# Altium schematic symbol library kmilo17pet-LT_PMIC_LT.SchLib: 2252 symbols (part 53 of 124)
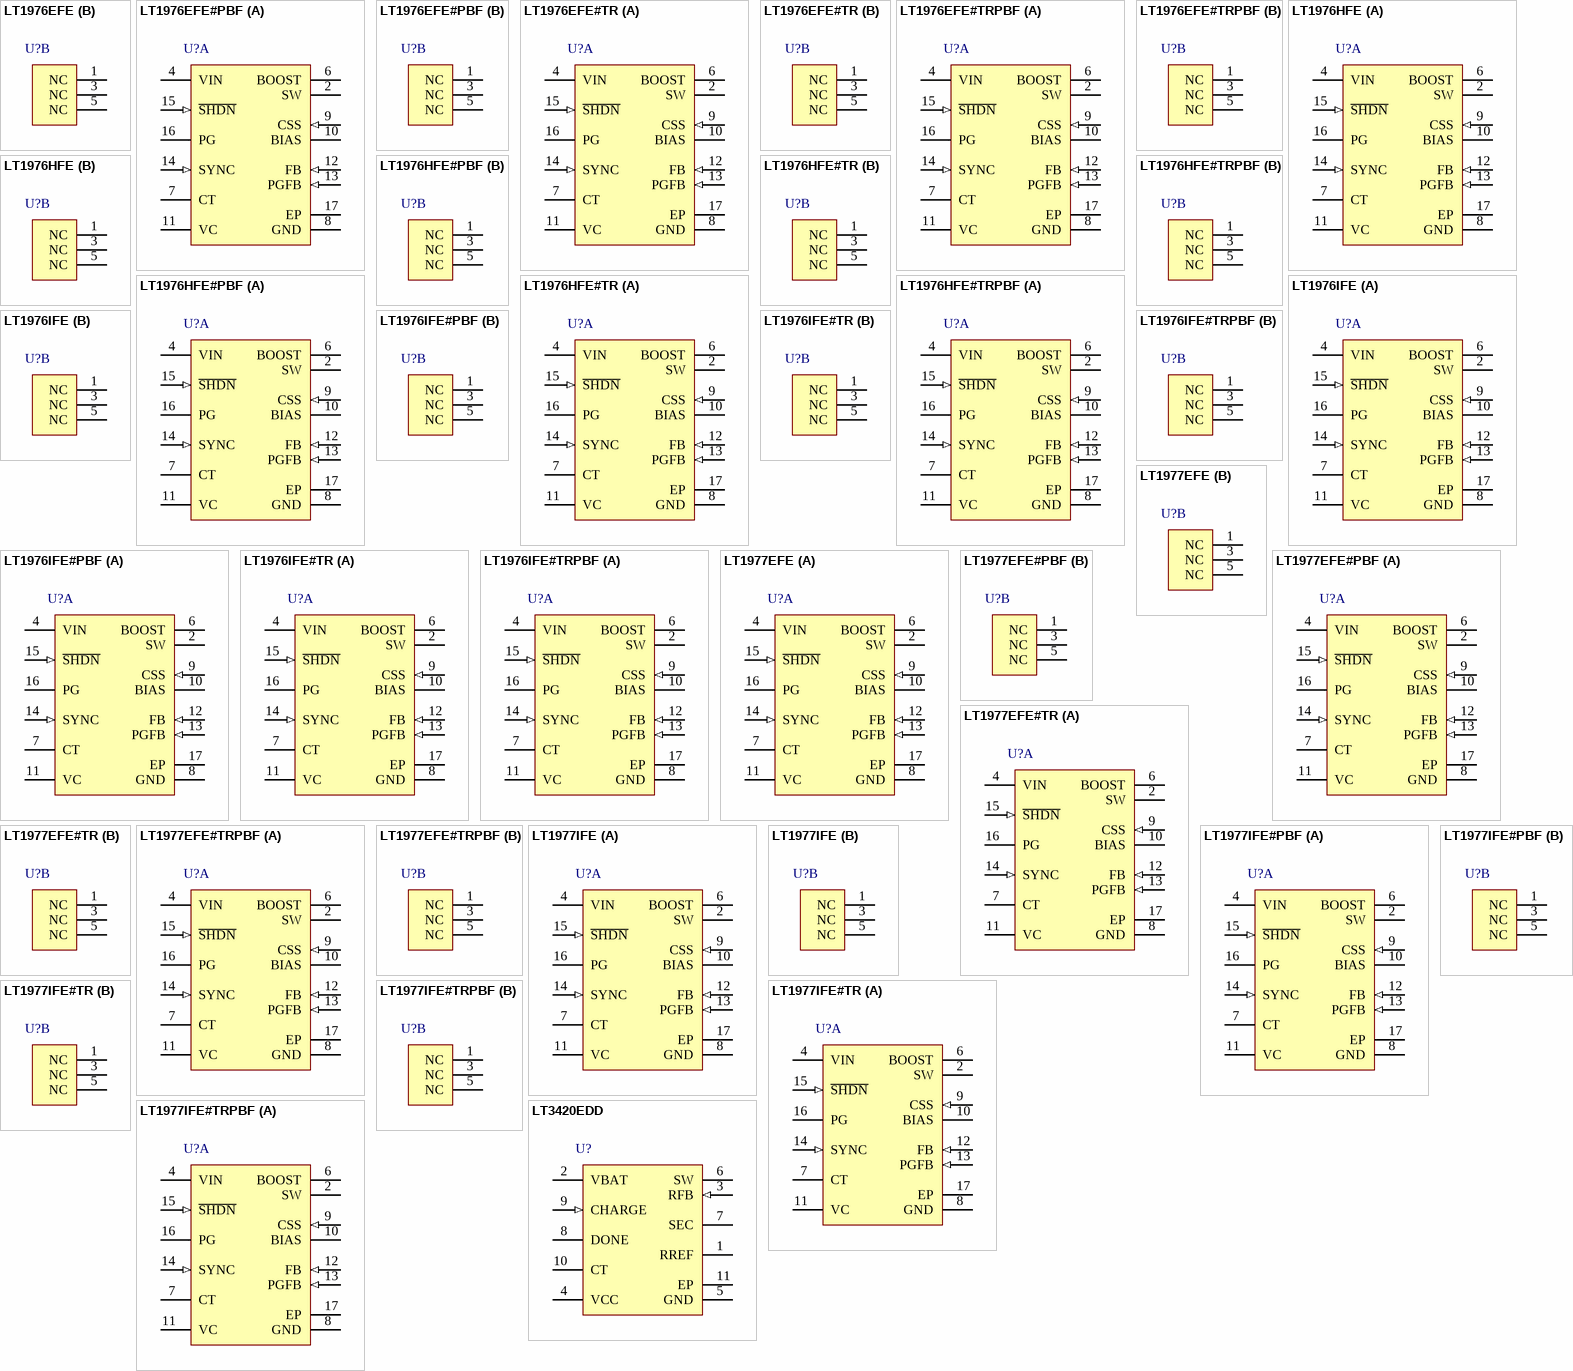
[diagram p123: symbols LT1976EFE to LT3420EDD]

## LT1977IFE#TRPBF
designator U?
High Voltage 1.5 A, 500 kHz Step-Down Switching Regulator with 100 uA Quiescent Current, 16-pin SOP (FE-16-EPV-BC), -40 to 125 degC, Pb-Free, Tape and Reel; Manufacturer: Linear Technology; PartNumber: LT1977IFE#TRPBF; Number of Outputs: 1; PackageReference: FE-16; PackageDescription: 16-Pin Plastic TSSOP, Body 5 x 4.4 mm, Pitch 0.65 mm; Supplier 1: Digi-Key; Supplier Part Number 1: LT1977IFE#TRPBF-ND; RoHS: TRUE
footprint LT-FE-16-EPV-BC_N (SOP, 16-Leads, Body 5.1x4.5mm, Pitch 0.65mm, Thermal Pad 3.58x2.94mm, IPC Medium Density)
footprint LT-FE-16-EPV-BC_L (SOP, 16-Leads, Body 5.1x4.5mm, Pitch 0.65mm, Thermal Pad 3.58x2.94mm, IPC High Density)
footprint LT-FE-16-EPV-BC_M (SOP, 16-Leads, Body 5.1x4.5mm, Pitch 0.65mm, Thermal Pad 3.58x2.94mm, IPC Low Density)
part A pins: 2 SW (power) "The SW pin is the emitter of the on-chip power NPN switch. This pin is driven up to the input pin voltage during switch on time. Inductor current drives the SW pin negative during switch off time. Negative voltage is clamped (See Datasheet)", 4 VIN (power) "This is the collector of the on-chip power NPN switch. VIN powers the internal control circuitry when a voltage on the BIAS pin is not present. High di/dt edges occur on this pin during switch turn on and off. Keep the path (See Datasheet)", 6 BOOST "The BOOST pin is used to provide a drive voltage, higher than the input voltage, to the internal bipolar NPN power switch. Without this added voltage, the typical switch voltage loss would be about 1.5V. The additional BOOST (See Datasheet)", 7 CT "A capacitor on the CT pin determines the amount of delay time between the PGFB pin exceeding its threshold (VPGFB) and the PG pin set to a high impedance state. When the PGFB pin rises above VPGFB, current is sourced from (See Datasheet)", 8 GND (power) "The GND pin connection acts as the reference for the regulated output, so load regulation will suffer if the “ground?end of the load is not at the same voltage as the GND pin of the IC. This condition will occur w(See Datasheet)", 9 CSS (in) "A capacitor from the CSS pin to the regulated output voltage determines the output voltage ramp rate during start-up. When the current through the CSS capacitor exceeds the CSS threshold (ICSS), the voltage ramp of the (See Datasheet)", 10 BIAS (power) "The BIAS pin is used to improve efficiency when operating at higher input voltages and light load current. Connecting this pin to the regulated output voltage forces most of the internal circuitry to draw its operating (See Datasheet)", 11 VC "The VC pin is the output of the error amplifier and the input of the peak switch current comparator. It is normally used for frequency compensation, but can also serve as a current clamp or control loop override. VC sits at (See Datasheet)", 12 FB (in) "The feedback pin is used to determine the output voltage using an external voltage divider from the output that generates 1.25V at the FB pin . When the FB pin drops below 0.9V, switching frequency is reduced, the SYNC (See Datasheet)", 13 PGFB (in) "The PGFB pin is the positive input to a comparator whose negative input is set at VPGFB. When PGFB is taken above VPGFB, current (ICSS) is sourced into the CT pin starting the PG delay period. When the voltage on the PGFB (See Datasheet)", 14 SYNC (in) "The SYNC pin is used to synchronize the internal oscillator to an external signal. It is directly logic compatible and can be driven with any signal between 30% and 70% duty cycle. The synchronizing range is equal to maximum (See Datasheet)", 15 ~{SHDN} (in) "The S\H\D\N\ pin is used to turn off the regulator and to reduce input current to less than 1uA. The S\H\D\N\ pin requires a voltage above 1.3V with a typical source current of 5uA to take the IC out of the shutdown state.", 16 PG (hiz) "The PG pin is functional only when the S\H\D\N\ pin is above its threshold, and is active low when the internal clamp on the CT pin is below its clamp level and high impedance when the clamp is active. The PG pin has a (See Datasheet)", 17 EP (power) "The GND pin connection acts as the reference for the regulated output, so load regulation will suffer if the “ground?end of the load is not at the same voltage as the GND pin of the IC. This condition will occur w(See Datasheet)"
part B pins: 1 NC "No Connection.", 3 NC "No Connection.", 5 NC "No Connection."

## LT3420EDD
designator U?
Photoflash Capacitor Chargers with Automatic Refresh, 10-pin SON (DD-10), -40 to 85 degC; Manufacturer: Linear Technology; PartNumber: LT3420EDD; Number of Outputs: 1; PackageReference: DD-10; PackageDescription: 10-Pin Plastic DFN, Body 3 x 3 mm, Pitch 0.5 mm; RoHS: FALSE
footprint LT-DD-10_V (SON, 10-Leads, Body 3x3mm, Pitch 0.5mm, Thermal Pad 2.38x1.65mm)
pins: 1 RREF "Reference Resistor Pin. Place a resistor (R2) from the RREF pin to GND. 2k is recommended.", 2 VBAT (power) "Battery Voltage Input. This pin should be connected to the power supply or battery, which supplies power to transformer T1. Must be locally bypassed.", 3 RFB (in) "Feedback Resistor Pin. Place a resistor (R1) from the SW pin to the RFB pin.", 4 VCC (power) "Input Supply Pin. Must be locally bypassed with a 4.7uF or larger ceramic capacitor.", 5 GND (power) "Ground. Tie directly to local ground plane.", 6 SW (power) "Switch Pin. This is the collector of the internal NPN power switch. Minimize the metal trace area connected to this pin to minimize EMI.", 7 SEC (power) "Transformer Secondary Pin. Tie one end of the transformer secondary to this pin. Take care to use the correct phasing of the transformer (Refer to Figures 1 and 2).", 8 DONE (oc) "Done Output Pin. Open collector NPN output. DONE is pulled low whenever the chip is delivering power to the output and goes high when power delivery stops.", 9 CHARGE (in) "Charge Pin. Drive CHARGE high (1.5V or more) to commence charging of the output capacitor. Drive to 0.2V or less to put the part in shutdown mode.", 10 CT "Refresh Timer Capacitor Pin.", 11 EP (power) "GND. Must be soldered to local ground plane on PCB."

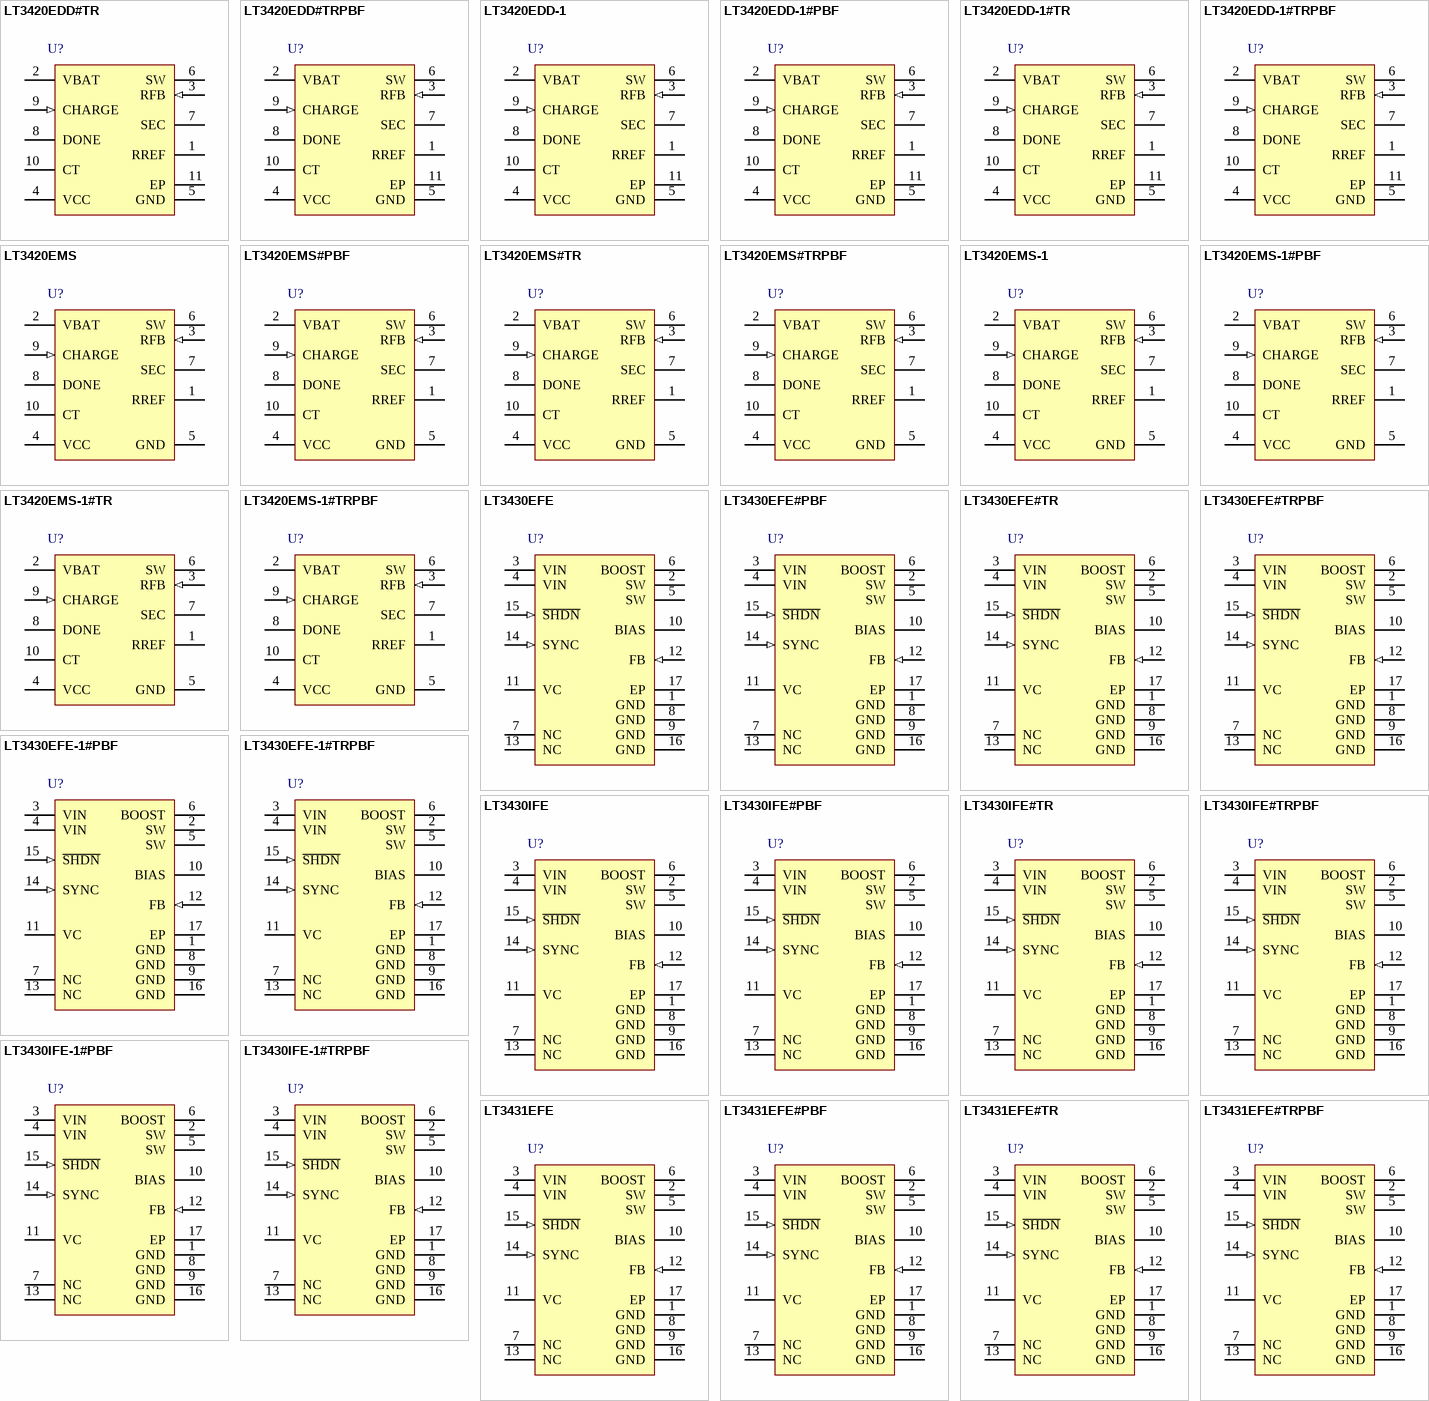
[diagram p32: symbols LT3420EDD#TR to LT3431EFE#TRPBF]

## LT3420EDD#TR
designator U?
Photoflash Capacitor Chargers with Automatic Refresh, 10-pin SON (DD-10), -40 to 85 degC, Tape and Reel; Manufacturer: Linear Technology; PartNumber: LT3420EDD#TR; Number of Outputs: 1; PackageReference: DD-10; PackageDescription: 10-Pin Plastic DFN, Body 3 x 3 mm, Pitch 0.5 mm; Supplier 1: Newark; Supplier Part Number 1: 57M8079; RoHS: FALSE
footprint LT-DD-10_V (SON, 10-Leads, Body 3x3mm, Pitch 0.5mm, Thermal Pad 2.38x1.65mm)
pins: 1 RREF "Reference Resistor Pin. Place a resistor (R2) from the RREF pin to GND. 2k is recommended.", 2 VBAT (power) "Battery Voltage Input. This pin should be connected to the power supply or battery, which supplies power to transformer T1. Must be locally bypassed.", 3 RFB (in) "Feedback Resistor Pin. Place a resistor (R1) from the SW pin to the RFB pin.", 4 VCC (power) "Input Supply Pin. Must be locally bypassed with a 4.7uF or larger ceramic capacitor.", 5 GND (power) "Ground. Tie directly to local ground plane.", 6 SW (power) "Switch Pin. This is the collector of the internal NPN power switch. Minimize the metal trace area connected to this pin to minimize EMI.", 7 SEC (power) "Transformer Secondary Pin. Tie one end of the transformer secondary to this pin. Take care to use the correct phasing of the transformer (Refer to Figures 1 and 2).", 8 DONE (oc) "Done Output Pin. Open collector NPN output. DONE is pulled low whenever the chip is delivering power to the output and goes high when power delivery stops.", 9 CHARGE (in) "Charge Pin. Drive CHARGE high (1.5V or more) to commence charging of the output capacitor. Drive to 0.2V or less to put the part in shutdown mode.", 10 CT "Refresh Timer Capacitor Pin.", 11 EP (power) "GND. Must be soldered to local ground plane on PCB."

## LT3420EDD#TRPBF
designator U?
Photoflash Capacitor Chargers with Automatic Refresh, 10-pin SON (DD-10), -40 to 85 degC, Pb-Free, Tape and Reel; Manufacturer: Linear Technology; PartNumber: LT3420EDD#TRPBF; Number of Outputs: 1; PackageReference: DD-10; PackageDescription: 10-Pin Plastic DFN, Body 3 x 3 mm, Pitch 0.5 mm; Supplier 1: Digi-Key; Supplier Part Number 1: LT3420EDD#TRPBF-ND; RoHS: TRUE
footprint LT-DD-10_V (SON, 10-Leads, Body 3x3mm, Pitch 0.5mm, Thermal Pad 2.38x1.65mm)
pins: 1 RREF "Reference Resistor Pin. Place a resistor (R2) from the RREF pin to GND. 2k is recommended.", 2 VBAT (power) "Battery Voltage Input. This pin should be connected to the power supply or battery, which supplies power to transformer T1. Must be locally bypassed.", 3 RFB (in) "Feedback Resistor Pin. Place a resistor (R1) from the SW pin to the RFB pin.", 4 VCC (power) "Input Supply Pin. Must be locally bypassed with a 4.7uF or larger ceramic capacitor.", 5 GND (power) "Ground. Tie directly to local ground plane.", 6 SW (power) "Switch Pin. This is the collector of the internal NPN power switch. Minimize the metal trace area connected to this pin to minimize EMI.", 7 SEC (power) "Transformer Secondary Pin. Tie one end of the transformer secondary to this pin. Take care to use the correct phasing of the transformer (Refer to Figures 1 and 2).", 8 DONE (oc) "Done Output Pin. Open collector NPN output. DONE is pulled low whenever the chip is delivering power to the output and goes high when power delivery stops.", 9 CHARGE (in) "Charge Pin. Drive CHARGE high (1.5V or more) to commence charging of the output capacitor. Drive to 0.2V or less to put the part in shutdown mode.", 10 CT "Refresh Timer Capacitor Pin.", 11 EP (power) "GND. Must be soldered to local ground plane on PCB."

## LT3420EDD-1
designator U?
Photoflash Capacitor Chargers with Automatic Refresh, 10-pin SON (DD-10), -40 to 85 degC; Manufacturer: Linear Technology; PartNumber: LT3420EDD-1; Number of Outputs: 1; PackageReference: DD-10; PackageDescription: 10-Pin Plastic DFN, Body 3 x 3 mm, Pitch 0.5 mm; RoHS: FALSE
footprint LT-DD-10_V (SON, 10-Leads, Body 3x3mm, Pitch 0.5mm, Thermal Pad 2.38x1.65mm)
pins: 1 RREF "Reference Resistor Pin. Place a resistor (R2) from the RREF pin to GND. 2k is recommended.", 2 VBAT (power) "Battery Voltage Input. This pin should be connected to the power supply or battery, which supplies power to transformer T1. Must be locally bypassed.", 3 RFB (in) "Feedback Resistor Pin. Place a resistor (R1) from the SW pin to the RFB pin.", 4 VCC (power) "Input Supply Pin. Must be locally bypassed with a 4.7uF or larger ceramic capacitor.", 5 GND (power) "Ground. Tie directly to local ground plane.", 6 SW (power) "Switch Pin. This is the collector of the internal NPN power switch. Minimize the metal trace area connected to this pin to minimize EMI.", 7 SEC (power) "Transformer Secondary Pin. Tie one end of the transformer secondary to this pin. Take care to use the correct phasing of the transformer (Refer to Figures 1 and 2).", 8 DONE (oc) "Done Output Pin. Open collector NPN output. DONE is pulled low whenever the chip is delivering power to the output and goes high when power delivery stops.", 9 CHARGE (in) "Charge Pin. Drive CHARGE high (1.5V or more) to commence charging of the output capacitor. Drive to 0.2V or less to put the part in shutdown mode.", 10 CT "Refresh Timer Capacitor Pin.", 11 EP (power) "GND. Must be soldered to local ground plane on PCB."

## LT3420EDD-1#PBF
designator U?
Photoflash Capacitor Chargers with Automatic Refresh, 10-pin SON (DD-10), -40 to 85 degC, Pb-Free; Manufacturer: Linear Technology; PartNumber: LT3420EDD-1#PBF; Number of Outputs: 1; PackageReference: DD-10; PackageDescription: 10-Pin Plastic DFN, Body 3 x 3 mm, Pitch 0.5 mm; Supplier 1: Digi-Key; Supplier Part Number 1: LT3420EDD-1#PBF-ND; RoHS: TRUE
footprint LT-DD-10_V (SON, 10-Leads, Body 3x3mm, Pitch 0.5mm, Thermal Pad 2.38x1.65mm)
pins: 1 RREF "Reference Resistor Pin. Place a resistor (R2) from the RREF pin to GND. 2k is recommended.", 2 VBAT (power) "Battery Voltage Input. This pin should be connected to the power supply or battery, which supplies power to transformer T1. Must be locally bypassed.", 3 RFB (in) "Feedback Resistor Pin. Place a resistor (R1) from the SW pin to the RFB pin.", 4 VCC (power) "Input Supply Pin. Must be locally bypassed with a 4.7uF or larger ceramic capacitor.", 5 GND (power) "Ground. Tie directly to local ground plane.", 6 SW (power) "Switch Pin. This is the collector of the internal NPN power switch. Minimize the metal trace area connected to this pin to minimize EMI.", 7 SEC (power) "Transformer Secondary Pin. Tie one end of the transformer secondary to this pin. Take care to use the correct phasing of the transformer (Refer to Figures 1 and 2).", 8 DONE (oc) "Done Output Pin. Open collector NPN output. DONE is pulled low whenever the chip is delivering power to the output and goes high when power delivery stops.", 9 CHARGE (in) "Charge Pin. Drive CHARGE high (1.5V or more) to commence charging of the output capacitor. Drive to 0.2V or less to put the part in shutdown mode.", 10 CT "Refresh Timer Capacitor Pin.", 11 EP (power) "GND. Must be soldered to local ground plane on PCB."

## LT3420EDD-1#TR
designator U?
Photoflash Capacitor Chargers with Automatic Refresh, 10-pin SON (DD-10), -40 to 85 degC, Tape and Reel; Manufacturer: Linear Technology; PartNumber: LT3420EDD-1#TR; Number of Outputs: 1; PackageReference: DD-10; PackageDescription: 10-Pin Plastic DFN, Body 3 x 3 mm, Pitch 0.5 mm; RoHS: FALSE
footprint LT-DD-10_V (SON, 10-Leads, Body 3x3mm, Pitch 0.5mm, Thermal Pad 2.38x1.65mm)
pins: 1 RREF "Reference Resistor Pin. Place a resistor (R2) from the RREF pin to GND. 2k is recommended.", 2 VBAT (power) "Battery Voltage Input. This pin should be connected to the power supply or battery, which supplies power to transformer T1. Must be locally bypassed.", 3 RFB (in) "Feedback Resistor Pin. Place a resistor (R1) from the SW pin to the RFB pin.", 4 VCC (power) "Input Supply Pin. Must be locally bypassed with a 4.7uF or larger ceramic capacitor.", 5 GND (power) "Ground. Tie directly to local ground plane.", 6 SW (power) "Switch Pin. This is the collector of the internal NPN power switch. Minimize the metal trace area connected to this pin to minimize EMI.", 7 SEC (power) "Transformer Secondary Pin. Tie one end of the transformer secondary to this pin. Take care to use the correct phasing of the transformer (Refer to Figures 1 and 2).", 8 DONE (oc) "Done Output Pin. Open collector NPN output. DONE is pulled low whenever the chip is delivering power to the output and goes high when power delivery stops.", 9 CHARGE (in) "Charge Pin. Drive CHARGE high (1.5V or more) to commence charging of the output capacitor. Drive to 0.2V or less to put the part in shutdown mode.", 10 CT "Refresh Timer Capacitor Pin.", 11 EP (power) "GND. Must be soldered to local ground plane on PCB."

## LT3420EDD-1#TRPBF
designator U?
Photoflash Capacitor Chargers with Automatic Refresh, 10-pin SON (DD-10), -40 to 85 degC, Pb-Free, Tape and Reel; Manufacturer: Linear Technology; PartNumber: LT3420EDD-1#TRPBF; Number of Outputs: 1; PackageReference: DD-10; PackageDescription: 10-Pin Plastic DFN, Body 3 x 3 mm, Pitch 0.5 mm; Supplier 1: Digi-Key; Supplier Part Number 1: LT3420EDD-1#TRPBF-ND; RoHS: TRUE
footprint LT-DD-10_V (SON, 10-Leads, Body 3x3mm, Pitch 0.5mm, Thermal Pad 2.38x1.65mm)
pins: 1 RREF "Reference Resistor Pin. Place a resistor (R2) from the RREF pin to GND. 2k is recommended.", 2 VBAT (power) "Battery Voltage Input. This pin should be connected to the power supply or battery, which supplies power to transformer T1. Must be locally bypassed.", 3 RFB (in) "Feedback Resistor Pin. Place a resistor (R1) from the SW pin to the RFB pin.", 4 VCC (power) "Input Supply Pin. Must be locally bypassed with a 4.7uF or larger ceramic capacitor.", 5 GND (power) "Ground. Tie directly to local ground plane.", 6 SW (power) "Switch Pin. This is the collector of the internal NPN power switch. Minimize the metal trace area connected to this pin to minimize EMI.", 7 SEC (power) "Transformer Secondary Pin. Tie one end of the transformer secondary to this pin. Take care to use the correct phasing of the transformer (Refer to Figures 1 and 2).", 8 DONE (oc) "Done Output Pin. Open collector NPN output. DONE is pulled low whenever the chip is delivering power to the output and goes high when power delivery stops.", 9 CHARGE (in) "Charge Pin. Drive CHARGE high (1.5V or more) to commence charging of the output capacitor. Drive to 0.2V or less to put the part in shutdown mode.", 10 CT "Refresh Timer Capacitor Pin.", 11 EP (power) "GND. Must be soldered to local ground plane on PCB."

## LT3420EMS
designator U?
Photoflash Capacitor Chargers with Automatic Refresh, 10-pin SOP (MS-10), -40 to 85 degC; Manufacturer: Linear Technology; PartNumber: LT3420EMS; Number of Outputs: 1; PackageReference: MS-10; PackageDescription: 10-Pin Plastic MSOP, Body 3 x 3 mm, Pitch 0.5 mm; Supplier 1: Digi-Key; Supplier Part Number 1: LT3420EMS-ND; RoHS: FALSE
footprint LT-MS-10_N (SOP, 10-Leads, Body 3.1x3.1mm, Pitch 0.5mm, IPC Medium Density)
footprint LT-MS-10_L (SOP, 10-Leads, Body 3.1x3.1mm, Pitch 0.5mm, IPC High Density)
footprint LT-MS-10_M (SOP, 10-Leads, Body 3.1x3.1mm, Pitch 0.5mm, IPC Low Density)
pins: 1 RREF "Reference Resistor Pin. Place a resistor (R2) from the RREF pin to GND. 2k is recommended.", 2 VBAT (power) "Battery Voltage Input. This pin should be connected to the power supply or battery, which supplies power to transformer T1. Must be locally bypassed.", 3 RFB (in) "Feedback Resistor Pin. Place a resistor (R1) from the SW pin to the RFB pin.", 4 VCC (power) "Input Supply Pin. Must be locally bypassed with a 4.7uF or larger ceramic capacitor.", 5 GND (power) "Ground. Tie directly to local ground plane.", 6 SW (power) "Switch Pin. This is the collector of the internal NPN power switch. Minimize the metal trace area connected to this pin to minimize EMI.", 7 SEC (power) "Transformer Secondary Pin. Tie one end of the transformer secondary to this pin. Take care to use the correct phasing of the transformer (Refer to Figures 1 and 2).", 8 DONE (oc) "Done Output Pin. Open collector NPN output. DONE is pulled low whenever the chip is delivering power to the output and goes high when power delivery stops.", 9 CHARGE (in) "Charge Pin. Drive CHARGE high (1.5V or more) to commence charging of the output capacitor. Drive to 0.2V or less to put the part in shutdown mode.", 10 CT "Refresh Timer Capacitor Pin."

## LT3420EMS#PBF
designator U?
Photoflash Capacitor Chargers with Automatic Refresh, 10-pin SOP (MS-10), -40 to 85 degC, Pb-Free; Manufacturer: Linear Technology; PartNumber: LT3420EMS#PBF; Number of Outputs: 1; PackageReference: MS-10; PackageDescription: 10-Pin Plastic MSOP, Body 3 x 3 mm, Pitch 0.5 mm; Supplier 1: Digi-Key; Supplier Part Number 1: LT3420EMS#PBF-ND; RoHS: TRUE
footprint LT-MS-10_N (SOP, 10-Leads, Body 3.1x3.1mm, Pitch 0.5mm, IPC Medium Density)
footprint LT-MS-10_L (SOP, 10-Leads, Body 3.1x3.1mm, Pitch 0.5mm, IPC High Density)
footprint LT-MS-10_M (SOP, 10-Leads, Body 3.1x3.1mm, Pitch 0.5mm, IPC Low Density)
pins: 1 RREF "Reference Resistor Pin. Place a resistor (R2) from the RREF pin to GND. 2k is recommended.", 2 VBAT (power) "Battery Voltage Input. This pin should be connected to the power supply or battery, which supplies power to transformer T1. Must be locally bypassed.", 3 RFB (in) "Feedback Resistor Pin. Place a resistor (R1) from the SW pin to the RFB pin.", 4 VCC (power) "Input Supply Pin. Must be locally bypassed with a 4.7uF or larger ceramic capacitor.", 5 GND (power) "Ground. Tie directly to local ground plane.", 6 SW (power) "Switch Pin. This is the collector of the internal NPN power switch. Minimize the metal trace area connected to this pin to minimize EMI.", 7 SEC (power) "Transformer Secondary Pin. Tie one end of the transformer secondary to this pin. Take care to use the correct phasing of the transformer (Refer to Figures 1 and 2).", 8 DONE (oc) "Done Output Pin. Open collector NPN output. DONE is pulled low whenever the chip is delivering power to the output and goes high when power delivery stops.", 9 CHARGE (in) "Charge Pin. Drive CHARGE high (1.5V or more) to commence charging of the output capacitor. Drive to 0.2V or less to put the part in shutdown mode.", 10 CT "Refresh Timer Capacitor Pin."

## LT3420EMS#TR
designator U?
Photoflash Capacitor Chargers with Automatic Refresh, 10-pin SOP (MS-10), -40 to 85 degC, Tape and Reel; Manufacturer: Linear Technology; PartNumber: LT3420EMS#TR; Number of Outputs: 1; PackageReference: MS-10; PackageDescription: 10-Pin Plastic MSOP, Body 3 x 3 mm, Pitch 0.5 mm; Supplier 1: Digi-Key; Supplier Part Number 1: LT3420EMSTR-ND; RoHS: FALSE
footprint LT-MS-10_N (SOP, 10-Leads, Body 3.1x3.1mm, Pitch 0.5mm, IPC Medium Density)
footprint LT-MS-10_L (SOP, 10-Leads, Body 3.1x3.1mm, Pitch 0.5mm, IPC High Density)
footprint LT-MS-10_M (SOP, 10-Leads, Body 3.1x3.1mm, Pitch 0.5mm, IPC Low Density)
pins: 1 RREF "Reference Resistor Pin. Place a resistor (R2) from the RREF pin to GND. 2k is recommended.", 2 VBAT (power) "Battery Voltage Input. This pin should be connected to the power supply or battery, which supplies power to transformer T1. Must be locally bypassed.", 3 RFB (in) "Feedback Resistor Pin. Place a resistor (R1) from the SW pin to the RFB pin.", 4 VCC (power) "Input Supply Pin. Must be locally bypassed with a 4.7uF or larger ceramic capacitor.", 5 GND (power) "Ground. Tie directly to local ground plane.", 6 SW (power) "Switch Pin. This is the collector of the internal NPN power switch. Minimize the metal trace area connected to this pin to minimize EMI.", 7 SEC (power) "Transformer Secondary Pin. Tie one end of the transformer secondary to this pin. Take care to use the correct phasing of the transformer (Refer to Figures 1 and 2).", 8 DONE (oc) "Done Output Pin. Open collector NPN output. DONE is pulled low whenever the chip is delivering power to the output and goes high when power delivery stops.", 9 CHARGE (in) "Charge Pin. Drive CHARGE high (1.5V or more) to commence charging of the output capacitor. Drive to 0.2V or less to put the part in shutdown mode.", 10 CT "Refresh Timer Capacitor Pin."

## LT3420EMS#TRPBF
designator U?
Photoflash Capacitor Chargers with Automatic Refresh, 10-pin SOP (MS-10), -40 to 85 degC, Pb-Free, Tape and Reel; Manufacturer: Linear Technology; PartNumber: LT3420EMS#TRPBF; Number of Outputs: 1; PackageReference: MS-10; PackageDescription: 10-Pin Plastic MSOP, Body 3 x 3 mm, Pitch 0.5 mm; Supplier 1: Digi-Key; Supplier Part Number 1: LT3420EMS#TRPBF-ND; RoHS: TRUE
footprint LT-MS-10_N (SOP, 10-Leads, Body 3.1x3.1mm, Pitch 0.5mm, IPC Medium Density)
footprint LT-MS-10_L (SOP, 10-Leads, Body 3.1x3.1mm, Pitch 0.5mm, IPC High Density)
footprint LT-MS-10_M (SOP, 10-Leads, Body 3.1x3.1mm, Pitch 0.5mm, IPC Low Density)
pins: 1 RREF "Reference Resistor Pin. Place a resistor (R2) from the RREF pin to GND. 2k is recommended.", 2 VBAT (power) "Battery Voltage Input. This pin should be connected to the power supply or battery, which supplies power to transformer T1. Must be locally bypassed.", 3 RFB (in) "Feedback Resistor Pin. Place a resistor (R1) from the SW pin to the RFB pin.", 4 VCC (power) "Input Supply Pin. Must be locally bypassed with a 4.7uF or larger ceramic capacitor.", 5 GND (power) "Ground. Tie directly to local ground plane.", 6 SW (power) "Switch Pin. This is the collector of the internal NPN power switch. Minimize the metal trace area connected to this pin to minimize EMI.", 7 SEC (power) "Transformer Secondary Pin. Tie one end of the transformer secondary to this pin. Take care to use the correct phasing of the transformer (Refer to Figures 1 and 2).", 8 DONE (oc) "Done Output Pin. Open collector NPN output. DONE is pulled low whenever the chip is delivering power to the output and goes high when power delivery stops.", 9 CHARGE (in) "Charge Pin. Drive CHARGE high (1.5V or more) to commence charging of the output capacitor. Drive to 0.2V or less to put the part in shutdown mode.", 10 CT "Refresh Timer Capacitor Pin."

## LT3420EMS-1
designator U?
Photoflash Capacitor Chargers with Automatic Refresh, 10-pin SOP (MS-10), -40 to 85 degC; Manufacturer: Linear Technology; PartNumber: LT3420EMS-1; Number of Outputs: 1; PackageReference: MS-10; PackageDescription: 10-Pin Plastic MSOP, Body 3 x 3 mm, Pitch 0.5 mm; Supplier 1: Digi-Key; Supplier Part Number 1: LT3420EMS-1-ND; RoHS: FALSE
footprint LT-MS-10_N (SOP, 10-Leads, Body 3.1x3.1mm, Pitch 0.5mm, IPC Medium Density)
footprint LT-MS-10_L (SOP, 10-Leads, Body 3.1x3.1mm, Pitch 0.5mm, IPC High Density)
footprint LT-MS-10_M (SOP, 10-Leads, Body 3.1x3.1mm, Pitch 0.5mm, IPC Low Density)
pins: 1 RREF "Reference Resistor Pin. Place a resistor (R2) from the RREF pin to GND. 2k is recommended.", 2 VBAT (power) "Battery Voltage Input. This pin should be connected to the power supply or battery, which supplies power to transformer T1. Must be locally bypassed.", 3 RFB (in) "Feedback Resistor Pin. Place a resistor (R1) from the SW pin to the RFB pin.", 4 VCC (power) "Input Supply Pin. Must be locally bypassed with a 4.7uF or larger ceramic capacitor.", 5 GND (power) "Ground. Tie directly to local ground plane.", 6 SW (power) "Switch Pin. This is the collector of the internal NPN power switch. Minimize the metal trace area connected to this pin to minimize EMI.", 7 SEC (power) "Transformer Secondary Pin. Tie one end of the transformer secondary to this pin. Take care to use the correct phasing of the transformer (Refer to Figures 1 and 2).", 8 DONE (oc) "Done Output Pin. Open collector NPN output. DONE is pulled low whenever the chip is delivering power to the output and goes high when power delivery stops.", 9 CHARGE (in) "Charge Pin. Drive CHARGE high (1.5V or more) to commence charging of the output capacitor. Drive to 0.2V or less to put the part in shutdown mode.", 10 CT "Refresh Timer Capacitor Pin."

## LT3420EMS-1#PBF
designator U?
Photoflash Capacitor Chargers with Automatic Refresh, 10-pin SOP (MS-10), -40 to 85 degC, Pb-Free; Manufacturer: Linear Technology; PartNumber: LT3420EMS-1#PBF; Number of Outputs: 1; PackageReference: MS-10; PackageDescription: 10-Pin Plastic MSOP, Body 3 x 3 mm, Pitch 0.5 mm; Supplier 1: Digi-Key; Supplier Part Number 1: LT3420EMS-1#PBF-ND; RoHS: TRUE
footprint LT-MS-10_N (SOP, 10-Leads, Body 3.1x3.1mm, Pitch 0.5mm, IPC Medium Density)
footprint LT-MS-10_L (SOP, 10-Leads, Body 3.1x3.1mm, Pitch 0.5mm, IPC High Density)
footprint LT-MS-10_M (SOP, 10-Leads, Body 3.1x3.1mm, Pitch 0.5mm, IPC Low Density)
pins: 1 RREF "Reference Resistor Pin. Place a resistor (R2) from the RREF pin to GND. 2k is recommended.", 2 VBAT (power) "Battery Voltage Input. This pin should be connected to the power supply or battery, which supplies power to transformer T1. Must be locally bypassed.", 3 RFB (in) "Feedback Resistor Pin. Place a resistor (R1) from the SW pin to the RFB pin.", 4 VCC (power) "Input Supply Pin. Must be locally bypassed with a 4.7uF or larger ceramic capacitor.", 5 GND (power) "Ground. Tie directly to local ground plane.", 6 SW (power) "Switch Pin. This is the collector of the internal NPN power switch. Minimize the metal trace area connected to this pin to minimize EMI.", 7 SEC (power) "Transformer Secondary Pin. Tie one end of the transformer secondary to this pin. Take care to use the correct phasing of the transformer (Refer to Figures 1 and 2).", 8 DONE (oc) "Done Output Pin. Open collector NPN output. DONE is pulled low whenever the chip is delivering power to the output and goes high when power delivery stops.", 9 CHARGE (in) "Charge Pin. Drive CHARGE high (1.5V or more) to commence charging of the output capacitor. Drive to 0.2V or less to put the part in shutdown mode.", 10 CT "Refresh Timer Capacitor Pin."

## LT3420EMS-1#TR
designator U?
Photoflash Capacitor Chargers with Automatic Refresh, 10-pin SOP (MS-10), -40 to 85 degC, Tape and Reel; Manufacturer: Linear Technology; PartNumber: LT3420EMS-1#TR; Number of Outputs: 1; PackageReference: MS-10; PackageDescription: 10-Pin Plastic MSOP, Body 3 x 3 mm, Pitch 0.5 mm; Supplier 1: Digi-Key; Supplier Part Number 1: LT3420EMS-1#TR-ND; RoHS: FALSE
footprint LT-MS-10_N (SOP, 10-Leads, Body 3.1x3.1mm, Pitch 0.5mm, IPC Medium Density)
footprint LT-MS-10_L (SOP, 10-Leads, Body 3.1x3.1mm, Pitch 0.5mm, IPC High Density)
footprint LT-MS-10_M (SOP, 10-Leads, Body 3.1x3.1mm, Pitch 0.5mm, IPC Low Density)
pins: 1 RREF "Reference Resistor Pin. Place a resistor (R2) from the RREF pin to GND. 2k is recommended.", 2 VBAT (power) "Battery Voltage Input. This pin should be connected to the power supply or battery, which supplies power to transformer T1. Must be locally bypassed.", 3 RFB (in) "Feedback Resistor Pin. Place a resistor (R1) from the SW pin to the RFB pin.", 4 VCC (power) "Input Supply Pin. Must be locally bypassed with a 4.7uF or larger ceramic capacitor.", 5 GND (power) "Ground. Tie directly to local ground plane.", 6 SW (power) "Switch Pin. This is the collector of the internal NPN power switch. Minimize the metal trace area connected to this pin to minimize EMI.", 7 SEC (power) "Transformer Secondary Pin. Tie one end of the transformer secondary to this pin. Take care to use the correct phasing of the transformer (Refer to Figures 1 and 2).", 8 DONE (oc) "Done Output Pin. Open collector NPN output. DONE is pulled low whenever the chip is delivering power to the output and goes high when power delivery stops.", 9 CHARGE (in) "Charge Pin. Drive CHARGE high (1.5V or more) to commence charging of the output capacitor. Drive to 0.2V or less to put the part in shutdown mode.", 10 CT "Refresh Timer Capacitor Pin."

## LT3420EMS-1#TRPBF
designator U?
Photoflash Capacitor Chargers with Automatic Refresh, 10-pin SOP (MS-10), -40 to 85 degC, Pb-Free, Tape and Reel; Manufacturer: Linear Technology; PartNumber: LT3420EMS-1#TRPBF; Number of Outputs: 1; PackageReference: MS-10; PackageDescription: 10-Pin Plastic MSOP, Body 3 x 3 mm, Pitch 0.5 mm; Supplier 1: Digi-Key; Supplier Part Number 1: LT3420EMS-1#TRPBF-ND; RoHS: TRUE
footprint LT-MS-10_N (SOP, 10-Leads, Body 3.1x3.1mm, Pitch 0.5mm, IPC Medium Density)
footprint LT-MS-10_L (SOP, 10-Leads, Body 3.1x3.1mm, Pitch 0.5mm, IPC High Density)
footprint LT-MS-10_M (SOP, 10-Leads, Body 3.1x3.1mm, Pitch 0.5mm, IPC Low Density)
pins: 1 RREF "Reference Resistor Pin. Place a resistor (R2) from the RREF pin to GND. 2k is recommended.", 2 VBAT (power) "Battery Voltage Input. This pin should be connected to the power supply or battery, which supplies power to transformer T1. Must be locally bypassed.", 3 RFB (in) "Feedback Resistor Pin. Place a resistor (R1) from the SW pin to the RFB pin.", 4 VCC (power) "Input Supply Pin. Must be locally bypassed with a 4.7uF or larger ceramic capacitor.", 5 GND (power) "Ground. Tie directly to local ground plane.", 6 SW (power) "Switch Pin. This is the collector of the internal NPN power switch. Minimize the metal trace area connected to this pin to minimize EMI.", 7 SEC (power) "Transformer Secondary Pin. Tie one end of the transformer secondary to this pin. Take care to use the correct phasing of the transformer (Refer to Figures 1 and 2).", 8 DONE (oc) "Done Output Pin. Open collector NPN output. DONE is pulled low whenever the chip is delivering power to the output and goes high when power delivery stops.", 9 CHARGE (in) "Charge Pin. Drive CHARGE high (1.5V or more) to commence charging of the output capacitor. Drive to 0.2V or less to put the part in shutdown mode.", 10 CT "Refresh Timer Capacitor Pin."

## LT3430EFE
designator U?
High Voltage, 3 A, 200 kHz Step-Down Switching Regulator, 16-pin SOP (FE-16-EPV-BB), -40 to 125 degC; Manufacturer: Linear Technology; PartNumber: LT3430EFE; Number of Outputs: 1; PackageReference: FE-16; PackageDescription: 16-Pin Plastic TSSOP, Body 5 x 4.4 mm, Pitch 0.65 mm; Supplier 1: Newark; Supplier Part Number 1: 57M8089; RoHS: FALSE
footprint LT-FE-16-EPV-BB_N (SOP, 16-Leads, Body 5.1x4.5mm, Pitch 0.65mm, Thermal Pad 3.58x2.94mm, IPC Medium Density)
footprint LT-FE-16-EPV-BB_L (SOP, 16-Leads, Body 5.1x4.5mm, Pitch 0.65mm, Thermal Pad 3.58x2.94mm, IPC High Density)
footprint LT-FE-16-EPV-BB_M (SOP, 16-Leads, Body 5.1x4.5mm, Pitch 0.65mm, Thermal Pad 3.58x2.94mm, IPC Low Density)
pins: 1 GND (power) "The GND pin connections act as the reference for the regulated output, so load regulation will suffer if the “ground?end of the load is not at the same voltage as the GND pins of the IC. This condition will occur w(See Datasheet)", 2 SW (power) "The switch pin is the emitter of the on-chip power NPN switch. This pin is driven up to the input pin voltage during switch on time. Inductor current drives the switch pin voltage negative during switch off time. Negative (See Datasheet)", 3 VIN (power) "This is the collector of the on-chip power NPN switch. VIN powers the internal control circuitry when a voltage on the BIAS pin is not present. High dI/dt edges occur on this pin during switch turn on and off. Keep the path (See Datasheet)", 4 VIN (power) "This is the collector of the on-chip power NPN switch. VIN powers the internal control circuitry when a voltage on the BIAS pin is not present. High dI/dt edges occur on this pin during switch turn on and off. Keep the path (See Datasheet)", 5 SW (power) "The switch pin is the emitter of the on-chip power NPN switch. This pin is driven up to the input pin voltage during switch on time. Inductor current drives the switch pin voltage negative during switch off time. Negative (See Datasheet)", 6 BOOST "The BOOST pin is used to provide a drive voltage, higher than the input voltage, to the internal bipolar NPN power switch. Without this added voltage, the typical switch voltage loss would be about 1.5V. The additional BOOST (See Datasheet)", 7 NC "No Connection.", 8 GND (power) "The GND pin connections act as the reference for the regulated output, so load regulation will suffer if the “ground?end of the load is not at the same voltage as the GND pins of the IC. This condition will occur w(See Datasheet)", 9 GND (power) "The GND pin connections act as the reference for the regulated output, so load regulation will suffer if the “ground?end of the load is not at the same voltage as the GND pins of the IC. This condition will occur w(See Datasheet)", 10 BIAS (power) "The BIAS pin is used to improve efficiency when operating at higher input voltages and light load current. Connecting this pin to the regulated output voltage forces most of the internal circuitry to draw its operating (See Datasheet)", 11 VC "The VC pin is the output of the error amplifier and the input of the peak switch current comparator. It is normally used for frequency compensation, but can also serve as a current clamp or control loop override. VC sits at (See Datasheet)", 12 FB (in) "The feedback pin is used to set the output voltage using an external voltage divider that generates 1.22V at the pin for the desired output voltage. Three additional functions are performed by the FB pin. When the pin (See Datasheet)", 13 NC "No Connection.", 14 SYNC (in) "The SYNC pin is used to synchronize the internal oscillator to an external signal. It is directly logic compatible and can be driven with any signal between 10% and 90% duty cycle. The synchronizing range is 125kHz to 250kHz (See Datasheet)", 15 ~{SHDN} (in) "The S\H\D\N\ pin is used to turn off the regulator and to reduce input drain current to a few microamperes. This pin has two thresholds: one at 2.38V to disable switching and a second at 0.4V to force complete micropower (See Datasheet)", 16 GND (power) "The GND pin connections act as the reference for the regulated output, so load regulation will suffer if the “ground?end of the load is not at the same voltage as the GND pins of the IC. This condition will occur w(See Datasheet)", 17 EP (power) "The GND pin connections act as the reference for the regulated output, so load regulation will suffer if the “ground?end of the load is not at the same voltage as the GND pins of the IC. This condition will occur w(See Datasheet)"

## LT3430EFE#PBF
designator U?
High Voltage, 3 A, 200 kHz Step-Down Switching Regulator, 16-pin SOP (FE-16-EPV-BB), -40 to 125 degC, Pb-Free; Manufacturer: Linear Technology; PartNumber: LT3430EFE#PBF; Number of Outputs: 1; PackageReference: FE-16; PackageDescription: 16-Pin Plastic TSSOP, Body 5 x 4.4 mm, Pitch 0.65 mm; Supplier 1: Digi-Key; Supplier Part Number 1: LT3430EFE#PBF-ND; RoHS: TRUE
footprint LT-FE-16-EPV-BB_N (SOP, 16-Leads, Body 5.1x4.5mm, Pitch 0.65mm, Thermal Pad 3.58x2.94mm, IPC Medium Density)
footprint LT-FE-16-EPV-BB_L (SOP, 16-Leads, Body 5.1x4.5mm, Pitch 0.65mm, Thermal Pad 3.58x2.94mm, IPC High Density)
footprint LT-FE-16-EPV-BB_M (SOP, 16-Leads, Body 5.1x4.5mm, Pitch 0.65mm, Thermal Pad 3.58x2.94mm, IPC Low Density)
pins: 1 GND (power) "The GND pin connections act as the reference for the regulated output, so load regulation will suffer if the “ground?end of the load is not at the same voltage as the GND pins of the IC. This condition will occur w(See Datasheet)", 2 SW (power) "The switch pin is the emitter of the on-chip power NPN switch. This pin is driven up to the input pin voltage during switch on time. Inductor current drives the switch pin voltage negative during switch off time. Negative (See Datasheet)", 3 VIN (power) "This is the collector of the on-chip power NPN switch. VIN powers the internal control circuitry when a voltage on the BIAS pin is not present. High dI/dt edges occur on this pin during switch turn on and off. Keep the path (See Datasheet)", 4 VIN (power) "This is the collector of the on-chip power NPN switch. VIN powers the internal control circuitry when a voltage on the BIAS pin is not present. High dI/dt edges occur on this pin during switch turn on and off. Keep the path (See Datasheet)", 5 SW (power) "The switch pin is the emitter of the on-chip power NPN switch. This pin is driven up to the input pin voltage during switch on time. Inductor current drives the switch pin voltage negative during switch off time. Negative (See Datasheet)", 6 BOOST "The BOOST pin is used to provide a drive voltage, higher than the input voltage, to the internal bipolar NPN power switch. Without this added voltage, the typical switch voltage loss would be about 1.5V. The additional BOOST (See Datasheet)", 7 NC "No Connection.", 8 GND (power) "The GND pin connections act as the reference for the regulated output, so load regulation will suffer if the “ground?end of the load is not at the same voltage as the GND pins of the IC. This condition will occur w(See Datasheet)", 9 GND (power) "The GND pin connections act as the reference for the regulated output, so load regulation will suffer if the “ground?end of the load is not at the same voltage as the GND pins of the IC. This condition will occur w(See Datasheet)", 10 BIAS (power) "The BIAS pin is used to improve efficiency when operating at higher input voltages and light load current. Connecting this pin to the regulated output voltage forces most of the internal circuitry to draw its operating (See Datasheet)", 11 VC "The VC pin is the output of the error amplifier and the input of the peak switch current comparator. It is normally used for frequency compensation, but can also serve as a current clamp or control loop override. VC sits at (See Datasheet)", 12 FB (in) "The feedback pin is used to set the output voltage using an external voltage divider that generates 1.22V at the pin for the desired output voltage. Three additional functions are performed by the FB pin. When the pin (See Datasheet)", 13 NC "No Connection.", 14 SYNC (in) "The SYNC pin is used to synchronize the internal oscillator to an external signal. It is directly logic compatible and can be driven with any signal between 10% and 90% duty cycle. The synchronizing range is 125kHz to 250kHz (See Datasheet)", 15 ~{SHDN} (in) "The S\H\D\N\ pin is used to turn off the regulator and to reduce input drain current to a few microamperes. This pin has two thresholds: one at 2.38V to disable switching and a second at 0.4V to force complete micropower (See Datasheet)", 16 GND (power) "The GND pin connections act as the reference for the regulated output, so load regulation will suffer if the “ground?end of the load is not at the same voltage as the GND pins of the IC. This condition will occur w(See Datasheet)", 17 EP (power) "The GND pin connections act as the reference for the regulated output, so load regulation will suffer if the “ground?end of the load is not at the same voltage as the GND pins of the IC. This condition will occur w(See Datasheet)"

## LT3430EFE#TR
designator U?
High Voltage, 3 A, 200 kHz Step-Down Switching Regulator, 16-pin SOP (FE-16-EPV-BB), -40 to 125 degC, Tape and Reel; Manufacturer: Linear Technology; PartNumber: LT3430EFE#TR; Number of Outputs: 1; PackageReference: FE-16; PackageDescription: 16-Pin Plastic TSSOP, Body 5 x 4.4 mm, Pitch 0.65 mm; Supplier 1: Digi-Key; Supplier Part Number 1: LT3430EFE#TR-ND; RoHS: FALSE
footprint LT-FE-16-EPV-BB_N (SOP, 16-Leads, Body 5.1x4.5mm, Pitch 0.65mm, Thermal Pad 3.58x2.94mm, IPC Medium Density)
footprint LT-FE-16-EPV-BB_L (SOP, 16-Leads, Body 5.1x4.5mm, Pitch 0.65mm, Thermal Pad 3.58x2.94mm, IPC High Density)
footprint LT-FE-16-EPV-BB_M (SOP, 16-Leads, Body 5.1x4.5mm, Pitch 0.65mm, Thermal Pad 3.58x2.94mm, IPC Low Density)
pins: 1 GND (power) "The GND pin connections act as the reference for the regulated output, so load regulation will suffer if the “ground?end of the load is not at the same voltage as the GND pins of the IC. This condition will occur w(See Datasheet)", 2 SW (power) "The switch pin is the emitter of the on-chip power NPN switch. This pin is driven up to the input pin voltage during switch on time. Inductor current drives the switch pin voltage negative during switch off time. Negative (See Datasheet)", 3 VIN (power) "This is the collector of the on-chip power NPN switch. VIN powers the internal control circuitry when a voltage on the BIAS pin is not present. High dI/dt edges occur on this pin during switch turn on and off. Keep the path (See Datasheet)", 4 VIN (power) "This is the collector of the on-chip power NPN switch. VIN powers the internal control circuitry when a voltage on the BIAS pin is not present. High dI/dt edges occur on this pin during switch turn on and off. Keep the path (See Datasheet)", 5 SW (power) "The switch pin is the emitter of the on-chip power NPN switch. This pin is driven up to the input pin voltage during switch on time. Inductor current drives the switch pin voltage negative during switch off time. Negative (See Datasheet)", 6 BOOST "The BOOST pin is used to provide a drive voltage, higher than the input voltage, to the internal bipolar NPN power switch. Without this added voltage, the typical switch voltage loss would be about 1.5V. The additional BOOST (See Datasheet)", 7 NC "No Connection.", 8 GND (power) "The GND pin connections act as the reference for the regulated output, so load regulation will suffer if the “ground?end of the load is not at the same voltage as the GND pins of the IC. This condition will occur w(See Datasheet)", 9 GND (power) "The GND pin connections act as the reference for the regulated output, so load regulation will suffer if the “ground?end of the load is not at the same voltage as the GND pins of the IC. This condition will occur w(See Datasheet)", 10 BIAS (power) "The BIAS pin is used to improve efficiency when operating at higher input voltages and light load current. Connecting this pin to the regulated output voltage forces most of the internal circuitry to draw its operating (See Datasheet)", 11 VC "The VC pin is the output of the error amplifier and the input of the peak switch current comparator. It is normally used for frequency compensation, but can also serve as a current clamp or control loop override. VC sits at (See Datasheet)", 12 FB (in) "The feedback pin is used to set the output voltage using an external voltage divider that generates 1.22V at the pin for the desired output voltage. Three additional functions are performed by the FB pin. When the pin (See Datasheet)", 13 NC "No Connection.", 14 SYNC (in) "The SYNC pin is used to synchronize the internal oscillator to an external signal. It is directly logic compatible and can be driven with any signal between 10% and 90% duty cycle. The synchronizing range is 125kHz to 250kHz (See Datasheet)", 15 ~{SHDN} (in) "The S\H\D\N\ pin is used to turn off the regulator and to reduce input drain current to a few microamperes. This pin has two thresholds: one at 2.38V to disable switching and a second at 0.4V to force complete micropower (See Datasheet)", 16 GND (power) "The GND pin connections act as the reference for the regulated output, so load regulation will suffer if the “ground?end of the load is not at the same voltage as the GND pins of the IC. This condition will occur w(See Datasheet)", 17 EP (power) "The GND pin connections act as the reference for the regulated output, so load regulation will suffer if the “ground?end of the load is not at the same voltage as the GND pins of the IC. This condition will occur w(See Datasheet)"